# Altium integrated library Supernova Inductors.IntLib: 46 symbols
Pins are listed as number, name and electrical type; pins without a type are passive.

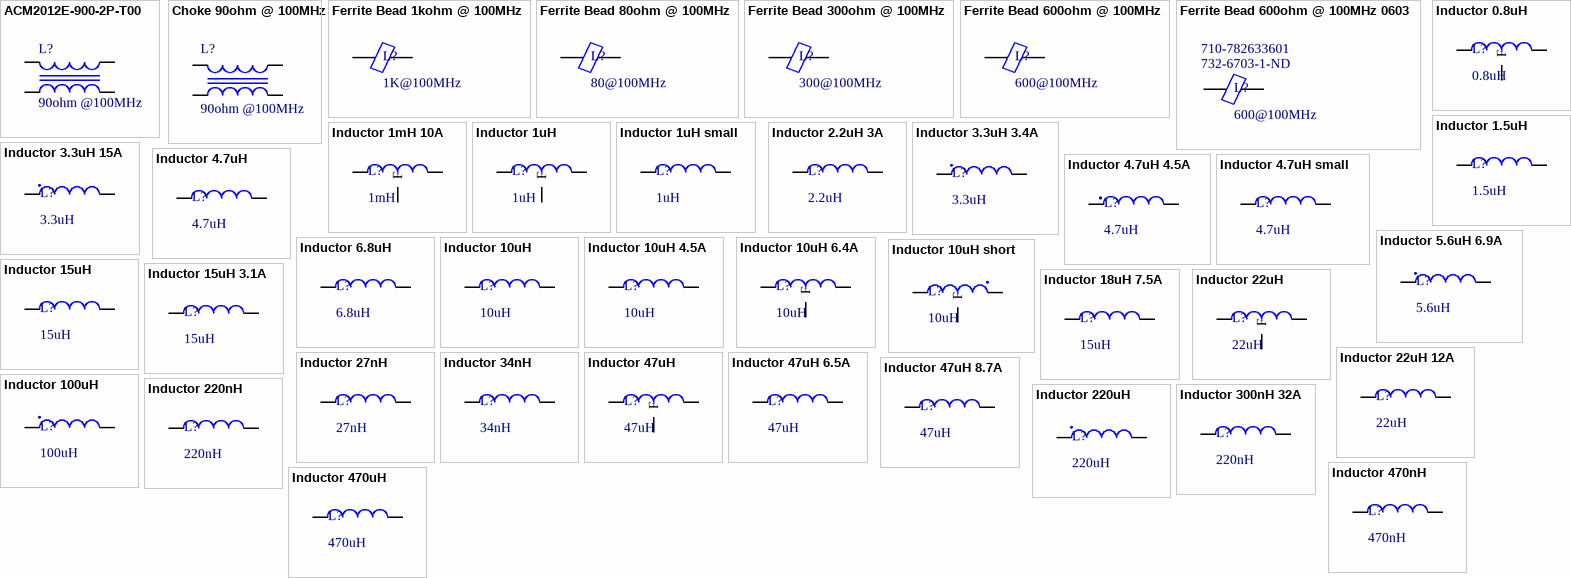
[diagram p0: symbols ACM2012E-900-2P-T00 to Inductor 470uH]

## ACM2012E-900-2P-T00
designator L?, comment 90ohm @100MHz
Choke Common-mode 90ohm @ 100MHz; Supplier 1: Mouser; Supplier 2: Digi-Key; Supplier 3: Digi-Key; Supplier Part Number 1: 81-DLW21SN900SQ2L; Supplier Part Number 2: 490-5137-1-ND; Supplier Part Number 3: 490-1064-1-ND
footprint ACM2012E-900-2P-T00
pins: 1, 2, 3, 4

## Choke 90ohm @ 100MHz
designator L?, comment 90ohm @100MHz
Choke Common-mode 90ohm @ 100MHz 0805; Mass_g: 0.03; Supplier 1: Mouser; Supplier Part Number 1: 81-DLW21SN900SQ2L; Supplier 2: Digi-Key; Supplier Part Number 2: 490-5137-1-ND; Supplier 3: Digi-Key; Supplier Part Number 3: 490-1064-1-ND; Supplier 4: Digi-Key; Supplier Part Number 4: SRF2012A-900YACT-ND; Supplier 5: Digi-Key; Supplier Part Number 5: 732-2578-1-ND
footprint 0805 CHOKE - KO
footprint 0805 CHOKE
pins: 1, 2, 3, 4

## Ferrite Bead 1kohm @ 100MHz
designator L?, comment 1K@100MHz
Ferrite Bead 1kohm @ 100MHz; Mass_g: 0.0025; Revision: July-2002: Re-released for DXP Platform.; Value: 1K@100MHz; Supplier 1: Digi-Key; Supplier 2: Digi-Key; Supplier Part Number 1: 490-1007-1-ND; Supplier Part Number 2: 445-2163-1-ND
footprint 0402 IND (Footprint not found)
footprint 0402 IND - KO (Footprint not found)
pins: 1, 2

## Ferrite Bead 80ohm @ 100MHz
designator L?, comment 80@100MHz
Ferrite Bead 80ohm @ 100MHz; Revision: July-2002: Re-released for DXP Platform.; Value: 80@100MHz; Supplier 1: Digi-Key; Supplier Part Number 1: MH1608-800YCT-ND; Supplier 2: Digi-Key; Supplier Part Number 2: 587-1875-1-ND
footprint 0603 IND (Footprint not found)
footprint 0603 IND - KO (Footprint not found)
pins: 1, 2

## Ferrite Bead 300ohm @ 100MHz
designator L?, comment 300@100MHz
Ferrite Bead 300ohm @ 100MHz; Revision: July-2002: Re-released for DXP Platform.; Value: 300@100MHz; Supplier 1: Digi-Key; Supplier Part Number 1: 732-1592-1-ND; Supplier 2: Digi-Key; Supplier Part Number 2: 240-2374-1-ND
footprint 0603 IND (Footprint not found)
footprint 0603 IND - KO (Footprint not found)
pins: 1, 2

## Ferrite Bead 600ohm @ 100MHz
designator L?, comment 600@100MHz
Ferrite Bead 600ohm @ 100MHz; Mass_g: 0.038; Revision: July-2002: Re-released for DXP Platform.; Value: 600@100MHz; Supplier 1: Digi-Key; Supplier Part Number 1: 445-2206-1-ND; Supplier 2: Digi-Key; Supplier Part Number 2: 541-2302-1-ND
footprint 0805 IND (Footprint not found)
footprint 0805 IND - KO (Footprint not found)
pins: 1, 2

## Ferrite Bead 600ohm @ 100MHz 0603
designator L?, comment 600@100MHz  Supplier Part Number 1: 732-6703-1-ND  Supplier Part Number 2: 710-782633601
Ferrite Bead 600ohm @ 100MHz 0603; Revision: July-2002: Re-released for DXP Platform.; Value: 600@100MHz; Supplier 1: Digi-Key; Supplier 2: Mouser
footprint 0603 IND (Chip Inductor, 2-Leads, Body 1.60x0.85mm, IPC Medium Density)
footprint 0603 IND - KO (Chip Inductor, 2-Leads, Body 1.60x0.85mm, IPC Medium Density)
pins: 1, 2

## Inductor 0.8uH
designator L?, comment 0.8uH
Inductor 0.8uH 16A 2.4mOhm 20%; Revision: July-2002: Re-released for DXP Platform.; Value: 0.8uH; Supplier 1: Digi-Key; Supplier 2: Mouser; Supplier Part Number 2: 851-CDEP105NP0R8MC88; Supplier Part Number 1: 308-2272-1-ND
footprint CDEP105 (Footprint not found)
simulation model Inductor
footprint CDEP105 - KO (Footprint not found)
pins: 1, 2, F

## Inductor 1.5uH
designator L?, comment 1.5uH
Inductor 1.5uH 3.34A 20mOhm 30%; Revision: July-2002: Re-released for DXP Platform.; Value: 1.5uH; Supplier 1: Digi-Key; Supplier 2: Digi-Key; Supplier Part Number 2: 587-4448-1-ND; Supplier Part Number 1: 535-12317-1-ND
footprint MDWK4040 (Precision Wire Wound Inductor, 2-Leads, Body 4.00x4.00mm, IPC Medium Density)
simulation model Inductor
footprint MDWK4040 - KO (Precision Wire Wound Inductor, 2-Leads, Body 4.00x4.00mm, IPC Medium Density)
pins: 1, 2

## Inductor 1mH 10A
designator L?, comment 1mH  (mechanical)
Inductor 1mH 10A 28mOhm 20%; Revision: July-2002: Re-released for DXP Platform.; Value: 1mH; Supplier 1: Digi-Key; Supplier Part Number 1: RI410PC-ND; Supplier 2: Newark; Supplier Part Number 2: 81H5392
simulation model Inductor
footprint RI410PC
pins: 1, 2, F

## Inductor 1uH
designator L?, comment 1uH  (mechanical)
Inductor 1uH 16.5A 2.5mOhm 20%; Revision: July-2002: Re-released for DXP Platform.; Value: 1uH; Supplier 1: Digi-Key; Supplier 2: Digi-Key; Supplier 3: Digi-Key; Supplier Part Number 2: 308-1519-1-ND; Supplier Part Number 3: 513-1510-1-ND; Supplier Part Number 1: 308-1518-1-ND
footprint CEP125
simulation model Inductor
footprint CEP125 - KO
pins: 1, 2, F

## Inductor 1uH small
designator L?, comment 1uH
Inductor 1uH 2.1A 68mOhm 20%; Revision: July-2002: Re-released for DXP Platform.; Value: 1uH; Supplier 1: Digi-Key; Supplier 2: Digi-Key; Supplier Part Number 1: 445-172960-1-ND; Supplier Part Number 2: SRN3015-1R0YCT-ND
simulation model Inductor
footprint 0806 IND (Footprint not found)
footprint 0806 IND - KO (Chip Inductor, 2-Leads, Body 2.00x1.60mm, IPC Medium Density)
pins: 1, 2

## Inductor 2.2uH 3A
designator L?, comment 2.2uH
Inductor 2.2uH 3A 50mOhm 20%; Revision: July-2002: Re-released for DXP Platform.; Value: 2.2uH; Supplier 1: Digi-Key; Supplier 2: Digi-Key; Supplier Part Number 1: 587-3577-1-ND; Supplier Part Number 2: 732-5504-1-ND
simulation model Inductor
footprint MDWK4040-2mm - KO (Precision Wire Wound Inductor, 2-Leads, Body 4.00x4.00mm, IPC Medium Density)
pins: 1, 2

## Inductor 3.3uH 3.4A
designator L?, comment 3.3uH
Inductor 3.3uH 3.42A 30mOhm 20%; Revision: July-2002: Re-released for DXP Platform.; Value: 3.3uH; Supplier 1: Digi-Key; Supplier 2: Mouser; Supplier Part Number 2: 710-7447789003; Supplier Part Number 1: 732-1174-1-ND
footprint WE-PD 7.3mm (Precision Wire Wound Inductor, 2-Leads, Body 7.30x7.30mm, IPC Medium Density)
simulation model Inductor
footprint WE-PD 7.3mm - KO (Precision Wire Wound Inductor, 2-Leads, Body 7.30x7.30mm, IPC Medium Density)
pins: 1, 2

## Inductor 3.3uH 15A
designator L?, comment 3.3uH
Inductor 3.3uH 15A 3.4mOhm 20%; Revision: July-2002: Re-released for DXP Platform.; Value: 3.3uH; Supplier 1: Digi-Key; Supplier Part Number 1: 732-10709-1-ND; Supplier 2: Mouser; Supplier Part Number 2: 710-74439369033
footprint WE-XHMI 11mm (Precision Wire Wound Inductor, 2-Leads, Body 10.50x11.60mm, IPC Medium Density)
simulation model Inductor
footprint WE-XHMI 11mm - KO (Precision Wire Wound Inductor, 2-Leads, Body 10.50x11.60mm, IPC Medium Density)
pins: 1, 2

## Inductor 4.7uH
designator L?, comment 4.7uH
Inductor 4.7uH 1.7A 96mOhm 20%; Revision: July-2002: Re-released for DXP Platform.; Value: 4.7uH; Supplier 1: Digi-Key; Supplier Part Number 1: 490-5328-1-ND; Supplier 2: Digi-Key; Supplier 3: Digi-Key; Supplier Part Number 2: SRN4018-4R7MCT-ND; Supplier Part Number 3: 732-5506-1-ND
footprint MDWK4040 - KO (Precision Wire Wound Inductor, 2-Leads, Body 4.00x4.00mm, IPC Medium Density)
simulation model Inductor
footprint MDWK4040 (Precision Wire Wound Inductor, 2-Leads, Body 4.00x4.00mm, IPC Medium Density)
pins: 1, 2

## Inductor 4.7uH 4.5A
designator L?, comment 4.7uH
Inductor 4.7uH 4.5A 60mOhm 20%; Revision: July-2002: Re-released for DXP Platform.; Value: 4.7uH; Supplier 1: Digi-Key; Supplier Part Number 1: 283-4525-1-ND; Supplier 2: Digi-Key; Supplier Part Number 2: 283-5238-1-ND
footprint HCM0503 - KO (Precision Wire Wound Inductor, 2-Leads, Body 5.15x5.10mm, IPC Medium Density)
simulation model Inductor
footprint HCM0503 (Precision Wire Wound Inductor, 2-Leads, Body 5.15x5.10mm, IPC Medium Density)
pins: 1, 2

## Inductor 4.7uH small
designator L?, comment 4.7uH
Inductor 4.7uH 1.1A 800mOhm 20%; Revision: July-2002: Re-released for DXP Platform.; Value: 4.7uH; Supplier 1: Digi-Key; Supplier 2: Digi-Key; Supplier Part Number 1: 445-172965-1-ND; Supplier Part Number 2: 490-15918-1-ND
simulation model Inductor
footprint 0806 IND (Footprint not found)
footprint 0806 IND - KO (Chip Inductor, 2-Leads, Body 2.00x1.60mm, IPC Medium Density)
pins: 1, 2

## Inductor 5.6uH 6.9A
designator L?, comment 5.6uH
Inductor 5.6uH 6.9A 15mOhm 20%; Revision: July-2002: Re-released for DXP Platform.; Value: 5.6uH; Supplier 1: Digi-Key; Supplier Part Number 1: 732-78439346056CT-ND; Supplier 2: Mouser; Supplier Part Number 2: 710-78439346056
footprint WE-XHMA 6mm (Precision Wire Wound Inductor, 2-Leads, Body 10.50x11.60mm, IPC Medium Density)
simulation model Inductor
pins: 1, 2

## Inductor 6.8uH
designator L?, comment 6.8uH  (mechanical)
Inductor 6.8uH 3.9A 37mOhm 20%; Revision: July-2002: Re-released for DXP Platform.; Value: 6.8uH; Supplier 1: Digi-Key; Supplier 2: Digi-Key; Supplier Part Number 1: 535-13046-1-ND; Supplier Part Number 2: 445-180836-1-ND
simulation model Inductor
footprint ASPI-6045S (Precision Wire Wound Inductor, 2-Leads, Body 6.00x6.00mm, IPC Medium Density)
footprint ASPI-6045S - KO (Precision Wire Wound Inductor, 2-Leads, Body 6.00x6.00mm, IPC Medium Density)
pins: 1, 2

## Inductor 10uH
designator L?, comment 10uH
Inductor 10uH 0.9A 400mOhm 20%; Revision: July-2002: Re-released for DXP Platform.; Value: 10uH; Supplier 1: Digi-Key; Supplier 2: Digi-Key; Supplier Part Number 1: 490-12034-1-ND; Supplier Part Number 2: 490-10589-1-ND
footprint 1210 IND (Footprint not found)
simulation model Inductor
footprint 1210 IND - KO (Footprint not found)
pins: 1, 2

## Inductor 10uH 4.5A
designator L?, comment 10uH
Inductor 10uH 4.5A 61mOhm 20%; Revision: July-2002: Re-released for DXP Platform.; Value: 10uH; Supplier 1: Digi-Key; Supplier 2: Digi-Key; Supplier Part Number 1: 399-20687-1-ND; Supplier Part Number 2: 445-SPM6545VT-100M-DCT-ND
footprint MPX1D0650 - KO (Precision Wire Wound Inductor, 2-Leads, Body 4.00x4.00mm, IPC Medium Density)
simulation model Inductor
footprint MPX1D0650 - KO - NARROW (Precision Wire Wound Inductor, 2-Leads, Body 4.00x4.00mm, IPC Medium Density)
pins: 1, 2

## Inductor 10uH 6.4A
designator L?, comment 10uH
Inductor 10uH 6.4A 13.7mOhm 20%; Revision: July-2002: Re-released for DXP Platform.; Value: 10uH; Supplier 1: Mouser; Supplier Part Number 1: 994-SER1390-103MLD
simulation model Inductor
footprint SER1390
footprint SER1390 - KO
pins: 1, 2, 3 F

## Inductor 10uH short
designator L?, comment 10uH
Inductor 10uH 1.05A 65mOhm 30%; Revision: July-2002: Re-released for DXP Platform.; Value: 10uH; Supplier 1: Digi-Key; Supplier 2: Mouser; Supplier Part Number 2: 652-SRU5018-100Y; Supplier Part Number 1: SRU5018-100YCT-ND
footprint SRU5018 (Footprint not found)
simulation model Inductor
footprint SRU5018 (Footprint not found)
pins: 1, 2, F

## Inductor 15uH
designator L?, comment 15uH
Inductor 15uH 14A 9mOhm 20%; Revision: July-2002: Re-released for DXP Platform.; Value: 15uH; Supplier 1: Digi-Key; Supplier Part Number 1: 732-2176-1-ND; Supplier 2: Mouser; Supplier Part Number 2: 710-74435571500
footprint WE-HCI 18mm - KO (Precision Wire Wound Inductor, 2-Leads, Body 18.20x18.20mm, IPC Medium Density)
simulation model Inductor
footprint WE-HCI 18mm (Precision Wire Wound Inductor, 2-Leads, Body 18.20x18.20mm, IPC Medium Density)
pins: 1, 2

## Inductor 15uH 3.1A
designator L?, comment 15uH
Inductor 15uH 3.3A 130mOhm 20%; Mass_g: 0.73; Revision: July-2002: Re-released for DXP Platform.; Value: 15uH; Supplier 1: Digi-Key; Supplier Part Number 1: 399-20688-1-ND; Supplier 2: Digi-Key; Supplier Part Number 2: 308-2460-1-ND; Supplier 3: Digi-Key; Supplier Part Number 3: 118-SRP6030VA-150MCT-ND
footprint MPX1D0650 - KO (Precision Wire Wound Inductor, 2-Leads, Body 4.00x4.00mm, IPC Medium Density)
simulation model Inductor
footprint MPX1D0650 - KO - NARROW (Precision Wire Wound Inductor, 2-Leads, Body 4.00x4.00mm, IPC Medium Density)
footprint MPX1D0650 - KO - SMALL (Precision Wire Wound Inductor, 2-Leads, Body 4.00x4.00mm, IPC Medium Density)
footprint MPX1D0650 (Precision Wire Wound Inductor, 2-Leads, Body 4.00x4.00mm, IPC Medium Density)
pins: 1, 2

## Inductor 18uH 7.5A
designator L?, comment 15uH
Inductor 18uH 7.5A 22mOhm 20%; Mass_g: 0.73; Revision: July-2002: Re-released for DXP Platform.; Value: 15uH; Supplier 1: Digi-Key; Supplier Part Number 1: 732-3880-1-ND; Supplier 2: Mouser; Supplier Part Number 2: 710-7443551181; Supplier 3: Farnell; Supplier Part Number 3: 2211630
simulation model Inductor
footprint WE-HCI 13mm (Precision Wire Wound Inductor, 2-Leads, Body 18.20x18.20mm, IPC Medium Density)
pins: 1, 2

## Inductor 22uH
designator L?, comment 22uH
Inductor 22uH 5.7A 21mOhm 20%; Revision: July-2002: Re-released for DXP Platform.; Value: 22uH; Supplier 1: Mouser; Supplier Part Number 1: 994-SER1390-223MLD; Supplier 2: Farnell; Supplier Part Number 2: 2343817
simulation model Inductor
footprint SER1390
footprint SER1390 - KO
pins: 1, 2, 3 F

## Inductor 22uH 12A
designator L?, comment 22uH
Inductor 22uH 12A 26mOhm 20%; Revision: July-2002: Re-released for DXP Platform.; Value: 22uH; Supplier 1: Arrow Electronics; Supplier Part Number 1: PA4344.223NLT; Supplier 2: Avnet; Supplier Part Number 2: PA4344.223ANLT; Supplier 3: Avnet; Supplier Part Number 3: AMPLA1707Q-220MT; Supplier 4: Avnet; Supplier Part Number 4: AMDLA1707Q-220MT; Supplier 5: Avnet; Supplier Part Number 5: PM4344.223NLT
simulation model Inductor
footprint IND1770 (Molded Inductor, 2-Leads, Body 17.45x16.95mm, IPC Medium Density)
pins: 1, 2

## Inductor 27nH
designator L?, comment 27nH
Inductor 27nH 280mA 520mOhm 5%; Revision: July-2002: Re-released for DXP Platform.; Value: 27nH; Supplier 1: Digi-Key; Supplier 2: Digi-Key; Supplier Part Number 1: 490-1151-1-ND; Supplier Part Number 2: 490-6792-1-ND
footprint 0402 IND (Footprint not found)
footprint 0402 IND - KO (Footprint not found)
pins: 1, 2

## Inductor 34nH
designator L?, comment 34nH
Inductor 34nH 1800mA 36mOhm 10%; Revision: July-2002: Re-released for DXP Platform.; Value: 34nH; Supplier 1: Digi-Key; Supplier 2: Digi-Key; Supplier Part Number 1: 490-14269-1-ND; Supplier Part Number 2: 490-14268-1-ND
footprint 0402 IND (Footprint not found)
footprint 0402 IND - KO (Footprint not found)
pins: 1, 2

## Inductor 47uH
designator L?, comment 47uH
Inductor 47uH 3.0A 21mOhm 20%; Revision: July-2002: Re-released for DXP Platform.; Value: 47uH; Supplier 1: Mouser; Supplier 2: Farnell; Supplier Part Number 1: 994-SER1390-473MLB; Supplier Part Number 2: 2343821
simulation model Inductor
footprint SER1390
footprint SER1390 - KO
pins: 1, 2, 3 F

## Inductor 47uH 6.5A
designator L?, comment 47uH
Inductor 47uH 6.5A 90mOhm 20%; Revision: July-2002: Re-released for DXP Platform.; Value: 47uH; Supplier 1: Arrow Electronics; Supplier Part Number 1: SRP1265A-470M
simulation model Inductor
footprint SRP1265A (Precision Wire Wound Inductor, 2-Leads, Body 4.00x4.00mm, IPC Medium Density)
pins: 1, 2

## Inductor 47uH 8.7A
designator L?, comment 47uH
Inductor 47uH 8.7A 55mOhm 20%; Revision: July-2002: Re-released for DXP Platform.; Value: 47uH; Supplier 1: Arrow Electronics; Supplier Part Number 1: SRP1770TA-470M
simulation model Inductor
footprint SRP1770TA (Precision Wire Wound Inductor, 2-Leads, Body 4.00x4.00mm, IPC Medium Density)
pins: 1, 2

## Inductor 100uH
designator L?, comment 100uH  (mechanical)
Inductor 100uH 2.5A 110mOhm 20%; Revision: July-2002: Re-released for DXP Platform.; Value: 100uH; Supplier 1: Digi-Key; Supplier Part Number 1: 732-1248-1-ND; Supplier 2: Digi-Key; Supplier Part Number 2: 732-6799-1-ND
footprint WE-PD 12mm - KO (Precision Wire Wound Inductor, 2-Leads, Body 12.00x12.00mm, IPC Medium Density)
simulation model Inductor
footprint WE-PD 12mm (Precision Wire Wound Inductor, 2-Leads, Body 12.00x12.00mm, IPC Medium Density)
pins: 1, 2

## Inductor 220nH
designator L?, comment 220nH
Inductor 220nH 450mA 470mOhm 5%; Revision: July-2002: Re-released for DXP Platform.; Value: 220nH; Supplier 1: Digi-Key; Supplier 2: Digi-Key; Supplier Part Number 1: 490-14717-1-ND; Supplier Part Number 2: 490-14286-1-ND
footprint 0402 IND (Footprint not found)
footprint 0402 IND - KO (Footprint not found)
pins: 1, 2

## Inductor 220uH
designator L?, comment 220uH
Inductor 220uH 0.18A 3Ohm 10%; Revision: July-2002: Re-released for DXP Platform.; Value: 220uH; Supplier 1: Digi-Key; Supplier Part Number 1: SDR0703-221KLCT-ND; Supplier 2: Digi-Key; Supplier Part Number 2: 553-1947-1-ND
footprint SDR0703 (Footprint not found)
simulation model Inductor
footprint SDR0703 - KO (Footprint not found)
pins: 1, 2

## Inductor 300nH 32A
designator L?, comment 220nH
Inductor 300nH 32A 1.1mOhm 20%; Mass_g: 2.3; Revision: July-2002: Re-released for DXP Platform.; Value: 220nH; Supplier 1: Digi-Key; Supplier Part Number 1: 535-14301-1-ND; Supplier 2: Digi-Key; Supplier Part Number 2: SRP1038C-R30MCT-ND
footprint ASPIAIG-F1040 - KO (Molded Inductor, 2-Leads, Body 11.00x10.00mm, IPC Medium Density)
pins: 1, 2

## Inductor 470nH
designator L?, comment 470nH
Inductor 470nH 1300mA 80mOhm 20%; Revision: July-2002: Re-released for DXP Platform.; Value: 470nH; Supplier 1: Digi-Key; Supplier 2: Digi-Key; Supplier Part Number 1: 1276-6199-2-ND; Supplier Part Number 2: 587-2768-1-ND
footprint 0805 IND (Footprint not found)
footprint 0805 IND - KO (Footprint not found)
pins: 1, 2

## Inductor 470uH
designator L?, comment 470uH
Inductor 470uH 0.045A 25Ohm 5%; Revision: July-2002: Re-released for DXP Platform.; Value: 470uH; Supplier 1: Digi-Key; Supplier Part Number 1: 490-6632-1-ND; Supplier 2: Digi-Key; Supplier Part Number 2: 495-2651-1-ND
footprint 1210 IND (Footprint not found)
simulation model Inductor
footprint 1210 IND - KO (Footprint not found)
pins: 1, 2

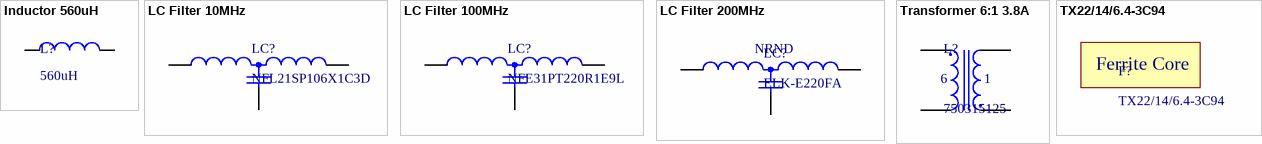
[diagram p1: symbols Inductor 560uH to TX22/14/6.4-3C94]

## Inductor 560uH
designator L?, comment 560uH
Inductor 560uH 0.04A 15Ohm 5%; Revision: July-2002: Re-released for DXP Platform.; Value: 560uH; Supplier 1: Digi-Key; Supplier Part Number 1: 490-17379-1-ND; Supplier 2: Digi-Key; Supplier Part Number 2: 490-4068-1-ND
footprint 1210 IND (Footprint not found)
simulation model Inductor
footprint 1210 IND - KO (Footprint not found)
pins: 1, 2

## LC Filter 10MHz
designator LC?, comment NFL21SP106X1C3D
Filter LC Low Pass 10MHz 3rd order; Supplier 1: Digi-Key; Supplier Part Number 1: 490-4016-1-ND; Supplier 2: Mouser; Supplier Part Number 2: 81-NFL21SP106X1C3D
footprint NFL21
pins: 1, 2, 3

## LC Filter 100MHz
designator LC?, comment NFE31PT220R1E9L
Filter LC Low Pass 100MHz 3rd order 6A; Supplier 1: Digi-Key; Supplier Part Number 1: 490-2544-1-ND; Supplier 2: Mouser; Supplier Part Number 2: 81-NFE31PT220R1E9L
footprint NFE31
pins: 1, 2, 3

## LC Filter 200MHz
designator LC?, comment ELK-E220FA
Filter LC Low Pass 200MHz 3rd order 2A; Supplier 1: Digi-Key; Supplier Part Number 1: P9871DKR-ND; Supplier 2: Digi-Key; Supplier Part Number 2: P13171CT-ND; NRND: NRND
footprint ELK (Footprint not found)
pins: 1, 2, 3

## Transformer 6:1 3.8A
designator L?, comment 750315125
Transformer 6:1 3.8A 40uH 300kHz; Supplier 1: Digi-Key; Supplier 2: Mouser; Supplier Part Number 1: 1297-1195-1-ND; Supplier Part Number 2: 710-750315125
footprint EP13-KO
pins: 3 4, 5 4, 6 4, 7 4, 9 4, 10 4
text: 1

## TX22/14/6.4-3C94
designator F?  (mechanical)
Ferrite Core Round 22.35mm Dia; Supplier 1: Digi-Key; Supplier Part Number 1: 1779-1523-ND
text: Ferrite Core